# Altium schematic symbol library 901-10040-1.SchLib: 1 symbol
Pins are listed as number, name and electrical type; pins without a type are passive.

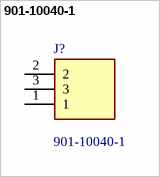
[diagram p0: symbol 901-10040-1]

## 901-10040-1
designator J?
RF Connector, SMA Straight PCB Jack, 50 Ohm; Manufacturer_Name: Amphenol; Geometry.Height: 9.72mm; Manufacturer_Part_Number: 901-10040-1; Mouser Part Number: 523-901-10040-1; Mouser Price/Stock: https://www.mouser.com/Search/Refine.aspx?Keyword=523-901-10040-1; Arrow Part Number: *; Arrow Price/Stock: *; Datasheet Link: *
footprint 901100401
pins: 1, 2, 3